# Altium footprint library TIDA-00172_revE2_PCB.PcbLib: 26 footprints (part 2 of 2)
Each footprint in its own frame and in the unit in brackets; x right, y up, seen from the top. Pads: shape width x height; smd on the part's side, far side on the other; paste and mask are expansions set on the pad; w line width, h text height; cw(c..) or ccw(c..) is an arc to the next point about the centre after c.
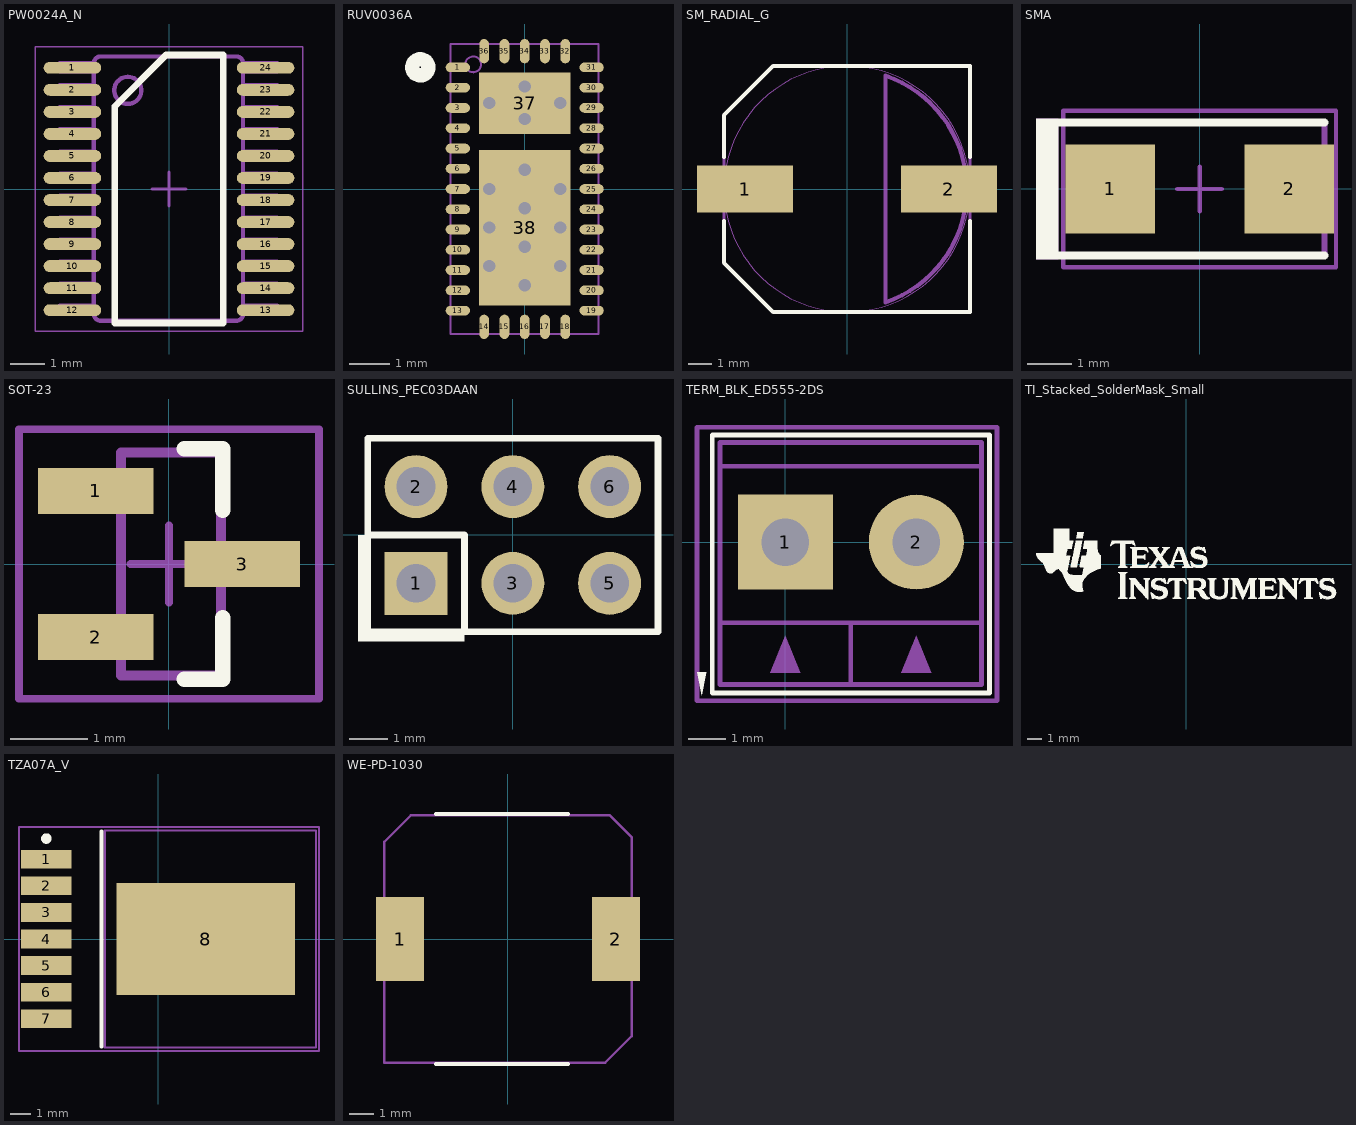
[diagram p1: the footprints below, top view; thin cyan lines are the x and y axes]

## PW0024A_N [mm]
pads (24):
  oval 1.7x0.35 smd: 1(-2.85,3.575) 2(-2.85,2.925) 3(-2.85,2.275) 4(-2.85,1.625) 5(-2.85,0.975) 6(-2.85,0.325) 7(-2.85,-0.325) 8(-2.85,-0.975) 9(-2.85,-1.625) 10(-2.85,-2.275) 11(-2.85,-2.925) 12(-2.85,-3.575) 13(2.85,-3.575) 14(2.85,-2.925) 15(2.85,-2.275) 16(2.85,-1.625) 17(2.85,-0.975) 18(2.85,-0.325) 19(2.85,0.325) 20(2.85,0.975) 21(2.85,1.625) 22(2.85,2.275) 23(2.85,2.925) 24(2.85,3.575)
Top Overlay:
  lines w0.2: -1.6,-3.95 -1.6,2.439 -0.089,3.95 1.6,3.95 1.6,-3.95 -1.6,-3.95
Mechanical 5:
  drawing of 298 lines, arcs and shapes, not listed
  text ".Designator" at -1.854,-0.508 h1.02
Mechanical 15:
  lines w0.05: -3.95,-4.2 -3.95,4.2 3.95,4.2 3.95,-4.2 -3.95,-4.2
  lines w0.1: -0.5,0 0.5,0 ; 0,-0.5 0,0.5
3D body "PW0024AakaMTC24.stp": height 0.98, standoff -0.02, extent -3.21,-3.9 3.21,3.9

## RUV0036A [mm]
pads (38):
  oval 0.6x0.24 smd mask+0.06: 1(-1.65,3) 2(-1.65,2.5) 3(-1.65,2) 4(-1.65,1.5) 5(-1.65,1) 6(-1.65,0.5) 7(-1.65,0) 8(-1.65,-0.5) 9(-1.65,-1) 10(-1.65,-1.5) 11(-1.65,-2) 12(-1.65,-2.5) 13(-1.65,-3) 19(1.65,-3) 20(1.65,-2.5) 21(1.65,-2) 22(1.65,-1.5) 23(1.65,-1) 24(1.65,-0.5) 25(1.65,0) 26(1.65,0.5) 27(1.65,1) 28(1.65,1.5) 29(1.65,2) 30(1.65,2.5) 31(1.65,3)
  oval 0.24x0.6 smd mask+0.06: 14(-1,-3.4) 15(-0.5,-3.4) 16(0,-3.4) 17(0.5,-3.4) 18(1,-3.4) 32(1,3.4) 33(0.5,3.4) 34(0,3.4) 35(-0.5,3.4) 36(-1,3.4)
  rect 2.25x1.514 smd paste-1 mask+0.06: 37(0,2.118)
  rect 2.25x3.836 smd paste-1.2 mask+0.06: 38(0,-0.957)
via 0,1.725 diameter 0.5 hole 0.3
via 0,2.525 diameter 0.5 hole 0.3
via 0.875,2.125 diameter 0.5 hole 0.3
via -0.875,2.125 diameter 0.5 hole 0.3
via -0.875,0 diameter 0.5 hole 0.3
via 0.875,0 diameter 0.5 hole 0.3
via 0.875,-0.95 diameter 0.5 hole 0.3
via -0.875,-0.95 diameter 0.5 hole 0.3
via 0.875,-1.9 diameter 0.5 hole 0.3
via -0.875,-1.9 diameter 0.5 hole 0.3
via 0,-2.375 diameter 0.5 hole 0.3
via 0,-1.425 diameter 0.5 hole 0.3
via 0,-0.475 diameter 0.5 hole 0.3
via 0,0.475 diameter 0.5 hole 0.3
Top Overlay:
  circle w0.35: c-2.575,3 r0.2
Top Paste:
  region: -0.1,0.093 -0.1,0.843 -1.1,0.843 -1.1,0.093
  region: 1.1,0.093 1.1,0.843 0.1,0.843 0.1,0.093
  region: 1.1,-0.857 1.1,-0.107 0.1,-0.107 0.1,-0.857
  region: -0.1,-0.857 -0.1,-0.107 -1.1,-0.107 -1.1,-0.857
  region: 1.1,-1.807 1.1,-1.057 0.1,-1.057 0.1,-1.807
  region: -0.1,-1.807 -0.1,-1.057 -1.1,-1.057 -1.1,-1.807
  region: 1.1,-2.757 1.1,-2.007 0.1,-2.007 0.1,-2.757
  region: -0.1,-2.757 -0.1,-2.007 -1.1,-2.007 -1.1,-2.757
  region: -0.1,2.217 -0.1,2.807 -1.1,2.807 -1.1,2.217
  region: 1.1,2.217 1.1,2.807 0.1,2.807 0.1,2.217
  region: 1.1,1.427 1.1,2.017 0.1,2.017 0.1,1.427
  region: -0.1,1.427 -0.1,2.017 -1.1,2.017 -1.1,1.427
Mechanical 5:
  circle w0.05: c-1.27,3.075 r0.195
  lines w0.05: -1.825,-3.575 1.825,-3.575 1.825,3.575 -1.825,3.575 -1.825,-3.575
  text ".Designator" at 0.4,-1.825 h1.02
3D body: height 1, standoff 0, extent -1.824,-3.574 1.824,3.574
3D body: height 1.02, standoff 0.9, extent -1.465,2.88 -1.076,3.27

## SM_RADIAL_G [mm]
pads (2):
  rect 4.1x2 smd: 1(-4.35,0) 2(4.35,0)
Top Overlay:
  lines w0.178: -5.25,-1.362 -5.25,-3.15 -3.15,-5.25 5.251,-5.25 ; -5.25,1.362 -5.25,3.15 -3.15,5.25 5.251,5.25 ; 5.25,-5.253 5.25,-1.366 ; 5.25,1.366 5.25,5.253
Mechanical 5:
  lines w0.127: 5.25,-5.25 5.25,5.253 ; 5.251,-5.25 -3.15,-5.25 -5.25,-3.15 -5.25,3.15 -3.15,5.25 5.251,5.25
  text ".Designator" at -1.7,-0.5 h1.02
Mechanical 13:
  circle w0.001: c0,0 r5.25
  lines w0.178: 1.638,4.837 cw(c0,0) 1.641,-4.836 ; 1.642,-4.836 1.642,4.837
3D body: height 0.6, standoff 0, extent -5.251,-5.253 5.252,5.253
3D body: height 10.5, standoff 0.1, extent -5.249,-5.249 5.249,5.249
3D body: height 10.5, standoff 10.4, extent 1.642,-4.835 5.106,4.835

## SMA [mm]
pads (2):
  rect 2x2 smd: 1(-2,0) 2(2,0)
Top Overlay:
  rectangle: -3.657,-1.575 -3.149,1.575
  lines w0.178: -3.327,-1.486 2.794,-1.486 ; -3.327,1.486 2.794,1.486
Mechanical 5:
  rectangle: -3.657,-1.575 -3.149,1.575
  lines w0.127: -3.327,-1.486 2.794,-1.486 2.794,1.486 -3.327,1.486
  text ".Designator" at -2.769,-0.33 h1.02
Mechanical 15:
  lines w0.1: -0.5,0 0.5,0 ; 0,-0.5 0,0.5 ; -3.05,-1.75 -3.05,1.75 3.05,1.75 3.05,-1.75 -3.05,-1.75
3D body "SMA_nominal.stp": height 2.42, standoff 0.02, extent -2.6,-1.3 2.6,1.3

## SOT-23 [mm]
pads (3):
  rect 1.5x0.6 smd: 1(-0.95,0.95) 2(-0.95,-0.95) 3(0.95,0)
Top Overlay:
  lines w0.2: 0.2,-1.5 0.7,-1.5 0.7,-0.7 ; 0.2,1.5 0.7,1.5 0.7,0.7
Mechanical 5:
  lines w0.127: -1.16,-1.15 -0.625,-1.15 -0.625,-1.45 0.675,-1.45 0.675,-0.2 1.21,-0.2 1.21,0.2 0.675,0.2 0.675,1.45 -0.625,1.45 -0.625,1.15 -1.16,1.15 -1.16,0.75 -0.625,0.75 -0.625,-0.75 -1.16,-0.75 -1.16,-1.15
  text ".Designator" at -0.175,1.225 h0.64
Mechanical 15:
  lines w0.1: -0.5,0 0.5,0 ; 0,-0.5 0,0.5 ; -1.95,-1.75 -1.95,1.75 1.95,1.75 1.95,-1.75 -1.95,-1.75
3D body "SW3dPS-sot-3p290x130ll237h100.STEP": height 1, standoff 0, extent -1.16,-1.45 1.21,1.45

## SULLINS_PEC03DAAN [mm]
pads (6):
  rect 1.65x1.65 hole 1.016 mask+0: 1(-2.54,-1.27)
  round 1.65 hole 1.016 mask+0: 2(-2.54,1.27) 3(0,-1.27) 4(0,1.27) 5(2.54,-1.27) 6(2.54,1.27)
Top Overlay:
  rectangle: -4.064,-2.629 -3.81,0
  region: -4.064,-2.54 -4.064,-2.794 -1.27,-2.794 -1.27,-2.54
  lines w0.178: -3.81,0 -1.27,0 -1.27,-2.54 ; -3.81,-2.54 3.81,-2.54 3.81,2.54 -3.81,2.54 -3.81,-2.54
Mechanical 5:
  rectangle: -3.048,-1.778 -2.032,-0.762
  lines w0.076: -3.81,-2.54 3.81,-2.54 3.81,2.54 -3.81,2.54 -3.81,-2.54
  lines w0.127: -3.81,-2.54 -3.81,2.54 3.81,2.54 3.81,-2.54 -3.81,-2.54
  text ".Designator" at -1.778,-0.508 h1.02
3D body: height 8.38, standoff -3.05, extent -2.857,-1.587 -2.222,-0.952
3D body: height 8.38, standoff -3.05, extent -2.857,0.953 -2.222,1.588
3D body: height 8.38, standoff -3.05, extent -0.317,0.953 0.318,1.588
3D body: height 8.38, standoff -3.05, extent -0.317,-1.587 0.318,-0.952
3D body: height 8.38, standoff -3.05, extent 2.223,-1.587 2.858,-0.952
3D body: height 8.38, standoff -3.05, extent 2.223,0.953 2.858,1.588
3D body: height 2.54, standoff 0, extent -3.809,-2.539 3.809,2.539

## TERM_BLK_ED555-2DS [mil]
pads (2):
  rect 100x100 hole 50: 1(0,0)
  round 100 hole 50: 2(138,0)
Top Overlay:
  region: -88,-161 -83,-137 -93,-137
  lines w5: -77,-159 215,-159 215,113 -77,113 -77,-159
Mechanical 5:
  region: 153.54,-137.8 122.05,-137.8 137.8,-98.43
  region: 15.75,-137.8 -15.75,-137.8 0,-98.43
  lines w5: -68.9,-85 206.69,-85 ; -68.9,80 206.69,80 ; 68.9,-150.2 68.9,-85 ; -68.9,-150 206.69,-150 206.69,105 -68.9,105 -68.9,-150
  text ".Designator" at -23.62,-23.62 h40
Mechanical 15:
  lines w5: -93,-167 -93,121 223,121 223,-167 -93,-167
3D body "On-Shore_ED555_2DS.stp": height 323.43, standoff -137.2, extent -68.7,-149.61 206.89,106.3

## TI_Stacked_SolderMask_Small [mm]
Top Overlay:
  drawing of 18 lines, arcs and shapes, not listed

## TZA07A_V [mm]
pads (8):
  rect 2.41x0.89 smd: 1(-5.35,3.81) 2(-5.35,2.54) 3(-5.35,1.27) 4(-5.35,0) 5(-5.35,-1.27) 6(-5.35,-2.54) 7(-5.35,-3.81)
  rect 8.54x5.35 smd: 8(2.28,0)
Top Overlay:
  circle w0.25: c-5.35,4.805 r0.125
  lines w0.2: -2.7,-5.15 -2.7,5.15
Mechanical 5:
  text ".Designator" at -1.524,-0.508 h1.02
Mechanical 13:
  lines w0.1: -2.55,-5.2 7.55,-5.2 7.55,5.2 -2.55,5.2 -2.55,-5.2
Mechanical 15:
  lines w0.1: -0.5,0 0.5,0 ; 0,-0.5 0,0.5 ; -6.655,-5.35 7.7,-5.35 7.7,5.35 -6.655,5.35 -6.655,-5.35
3D body: height 4.67, standoff 0, extent -2.55,-5.2 7.55,5.2

## WE-PD-1030 [mm]
pads (2):
  rect 2x3.5 smd: 1(-4.5,0) 2(4.5,0)
Top Overlay:
  lines w0.17: -3,-5.2 2.5,-5.2 ; -3,5.2 2.5,5.2
Mechanical 5:
  lines w0.1: -5.15,-5.15 4.05,-5.15 5.15,-4.05 5.15,4.25 4.25,5.15 -4.05,5.15 -5.15,4.05 -5.15,-5.15
  text ".Designator" at -1.8,-0.4 h1.02
3D body: height 3, standoff 0, extent -5.151,-5.151 5.151,5.151